# EAGLE library part PS/2 (library usb)
MINI DIN JACK DIP 90° WITH SHIELD
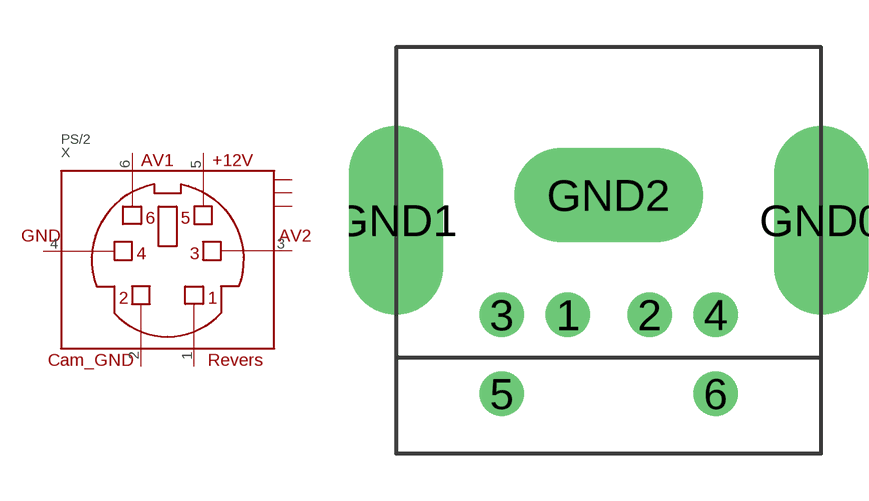
[diagram p2: symbol with the pads of PS/2; footprint PS/2]

Designator prefix X

## PS/2  [PS/2]
1  1
2  2
3  3
4  4
5  5
6  6
GND0  GND0
GND1  GND1
GND2  GND2

## Footprint PS/2 (pad centres in mm)
drill 0.9: 1 5.45,4.4; 2 8.05,4.4; 3 3.35,4.4; 4 10.15,4.4; 5 3.35,1.9; 6 10.15,1.9
drill 2 long: GND0 13.5,7.4; GND1 0,7.4; GND2 6.75,8.2